# EAGLE library part 43045-10 (library con-molex-micro-fit)
HEADER
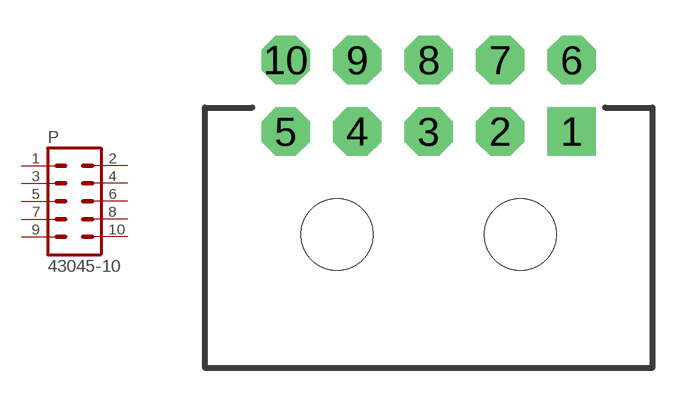
[diagram p2: symbol with the pads of 43045-10; footprint 43045-10]

Designator prefix P

## 43045-10  [43045-10]
1  1  pas
2  2  pas
3  3  pas
4  4  pas
5  5  pas
6  6  pas
7  7  pas
8  8  pas
9  9  pas
10  10  pas

## Footprint 43045-10 (pad centres in mm)
HEADER
drill 1.016 pad 2.032 square: 1 6,0
drill 1.016 pad 2.032 octagon: 2 3,0; 3 0,0; 4 -3,0; 5 -6,0; 6 6,3; 7 3,3; 8 0,3; 9 -3,3; 10 -6,3
hole 3 at -3.85,-4.32
hole 3 at 3.85,-4.32